# Altium schematic symbol library canDrive_comp_sch_lib.SchLib: 28 symbols
Pins are listed as number, name and electrical type; pins without a type are passive.

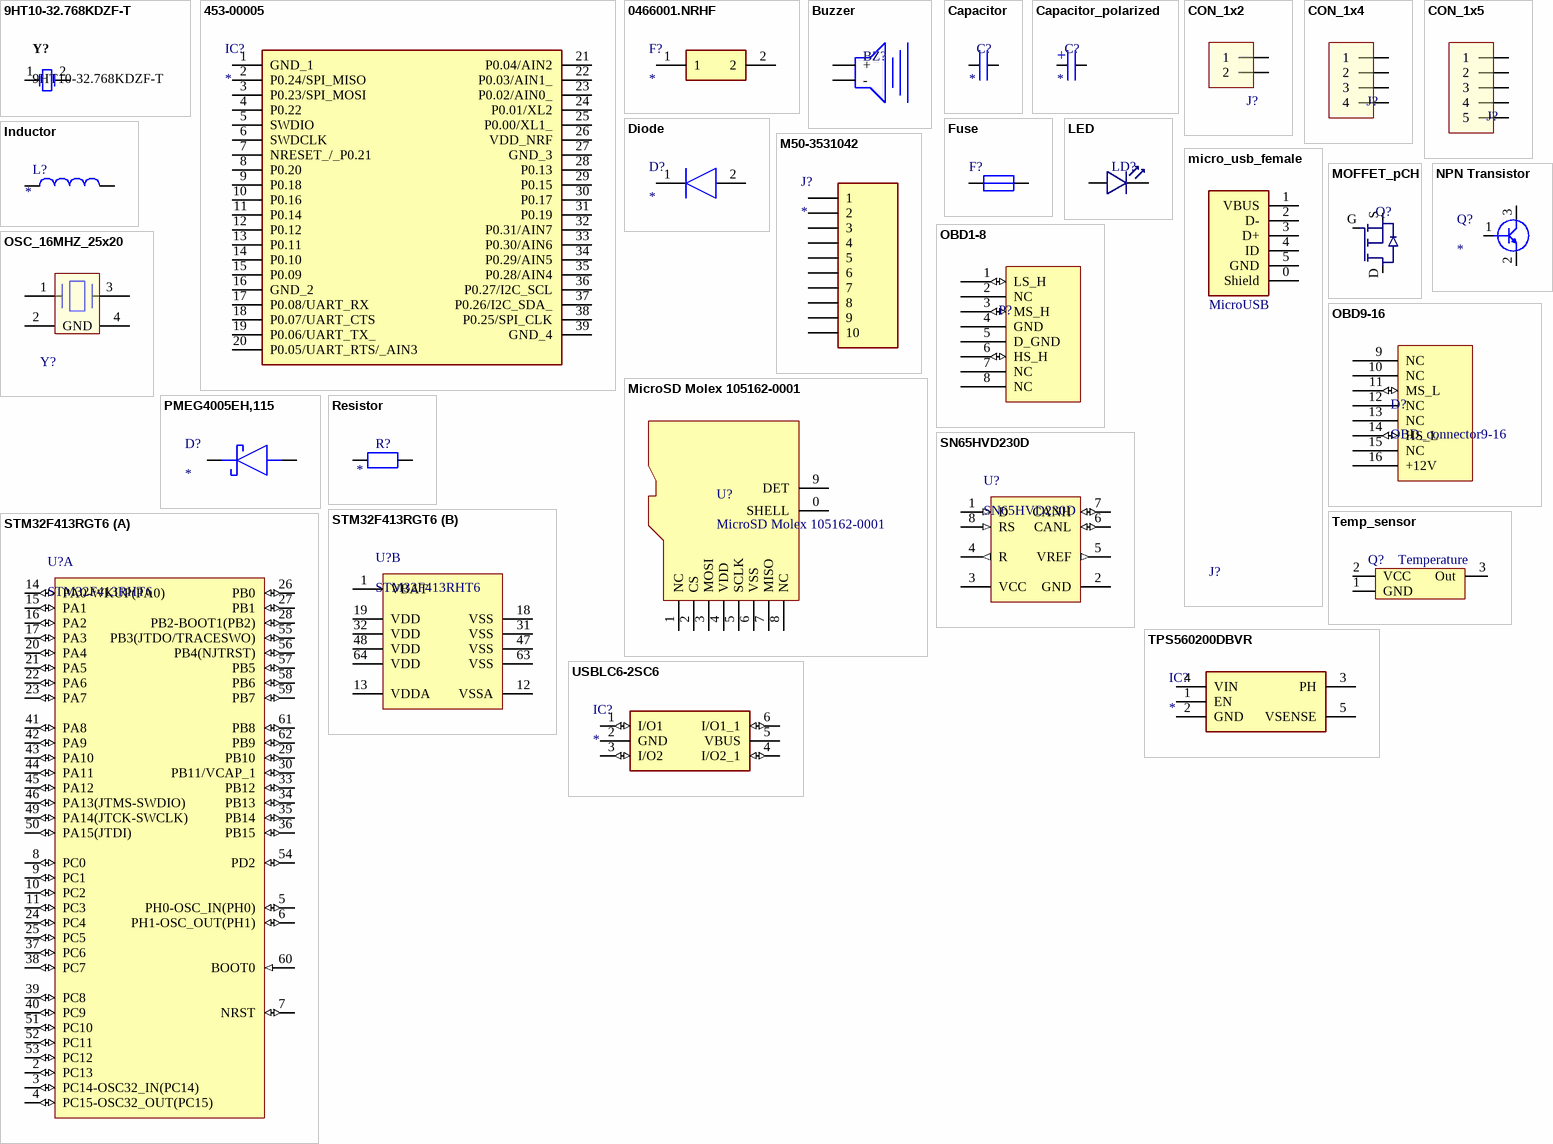
[diagram p0: symbols 9HT10-32.768KDZF-T to USBLC6-2SC6]

## 9HT10-32.768KDZF-T
designator Y?
Tuning Fork, 32.768 KHz, -40 to 85 degC, 2-Pin SMD, RoHS, Tape and Reel; Tolerance: 1%; Voltage Rating: 75 V; Case\Package: 0603; Resistance: 220 kohm; Power Rating: 100 mW; RoHSCompliant: true; Min Operating Temperature: -55 degC; Case Code (Imperial): 0603; Width: 0.8 mm; Pins: 2; ComponentLink1Description: Datasheet; DatasheetVersion: Jun-11; ComponentLink1URL: http://www.txccrystal.com/images/pdf/9ht10.pdf; PackageReference: 9HT10; Mount: Surface Mount; Length: 1.6 mm; REACH SVHC: Yes; Radiation Hardening: No; Max Operating Temperature: 155 degC; Package Quantity: 5000; Height: 0.45 mm; Packaging: Tape and Reel; PackageDescription: 2-Pin Surface Mount Device, Body 3.2 x 1.5 mm; Case Code (Metric): 1608; PartNumber: 9HT10-32.768KDZF-T
footprint TXC-9HT10_V (SMD, 2-Leads, Body 3.2x1.5mm)
pins: 1, 2

## 453-00005
designator IC?
Integrated Circuit; Manufacturer_Name: Laird Technologies; Manufacturer_Part_Number: 453-00005; Datasheet Link: https://connectivity-staging.s3.us-east-2.amazonaws.com/s3fs-public/2018-10/Datasheet%20-%20BL651%20v1_0.pdf; Height: 2.2mm; Mouser Part Number: 239-453-00005; Mouser Price/Stock: https://www.mouser.com/Search/Refine.aspx?Keyword=239-453-00005
footprint 45300005
pins: 1 GND_1, 2 P0.24/SPI_MISO, 3 P0.23/SPI_MOSI, 4 P0.22, 5 SWDIO, 6 SWDCLK, 7 NRESET_/_P0.21, 8 P0.20, 9 P0.18, 10 P0.16, 11 P0.14, 12 P0.12, 13 P0.11, 14 P0.10, 15 P0.09, 16 GND_2, 17 P0.08/UART_RX, 18 P0.07/UART_CTS, 19 P0.06/UART_TX_, 20 P0.05/UART_RTS/_AIN3, 21 P0.04/AIN2, 22 P0.03/AIN1_, 23 P0.02/AIN0_, 24 P0.01/XL2, 25 P0.00/XL1_, 26 VDD_NRF, 27 GND_3, 28 P0.13, 29 P0.15, 30 P0.17, 31 P0.19, 32 P0.31/AIN7, 33 P0.30/AIN6, 34 P0.29/AIN5, 35 P0.28/AIN4, 36 P0.27/I2C_SCL, 37 P0.26/I2C_SDA_, 38 P0.25/SPI_CLK, 39 GND_4

## 0466001.NRHF
designator F?
Fuse; Manufacturer_Name: LITTELFUSE; Manufacturer_Part_Number: 0466001.NRHF; Datasheet Link: http://www.mouser.com/datasheet/2/240/Littelfuse_Fuse_466_Datasheet.pdf-1317335.pdf; Height: 0.66mm; Mouser Part Number: 576-0466001.NRHF; Mouser Price/Stock: https://www.mouser.com/Search/Refine.aspx?Keyword=576-0466001.NRHF
footprint FUSC3215X66N
pins: 1, 2

## Buzzer
designator BZ?  (value not drawn)
footprint 52x52_buzzer
pins: 0 +, 1 -

## Capacitor
designator C?
Capacitor; Value: *
footprint C0603 (Imperial 0603)
footprint C0805 (Imperial 0805)
pins: 0, 1

## Capacitor_polarized
designator C?
Capacitor; Value: *
footprint CAP3216X180N_polar
pins: 1, 2
text: +

## CON_1x2
designator J?  (value not drawn)
1x4 connector; Type: DF57H-4P-1.2V Hirose HDR Lighting Connector
footprint ribbon2pin
pins: 1, 2

## CON_1x4
designator J?  (value not drawn)
1x4 connector; Type: DF57H-4P-1.2V Hirose HDR Lighting Connector
footprint ribbon4pin
footprint DF57H-4P-1.2V (DF57H-4P-1.2V Hirose HDR Lighting Connector)
footprint 127mm_header_4pin
pins: 1, 2, 3, 4

## CON_1x5
designator J?  (value not drawn)
1x5 connector
footprint ribbon5pin
pins: 1, 2, 3, 4, 5

## Diode
designator D?
Diode; Manufacturer_Name: Bourns; Manufacturer_Part_Number: CD0603-S01575; Allied_Number: 70154454; Datasheet Link: https://componentsearchengine.com/Datasheets/2/CD0603-S01575.pdf; Height: 0mm; Mouser Part Number: 652-CD0603-S01575; Mouser Price/Stock: https://www.mouser.com/Search/Refine.aspx?Keyword=652-CD0603-S01575; RS Part Number: 7673712P; RS Price/Stock: http://uk.rs-online.com/web/p/products/7673712P; Allied Price/Stock: https://www.alliedelec.com/bourns-cd0603-s01575/70154454/
footprint CD0603S01575
pins: 1 K, 2 A

## Fuse
designator F?  (value not drawn)
footprint FUSE 0603
footprint FUSE 1206
footprint MF-R 10.2mm pitch
pins: 1, 2

## Inductor
designator L?
Value: *
footprint inductor
pins: 1, 2

## LED
designator LD?  (value not drawn)
LED; Type: *
footprint LED_0603
pins: A, C

## M50-3531042
designator J?
Connector
footprint HDRV10W30P0X127_1X10_1270X210X420P
pins: 1, 2, 3, 4, 5, 6, 7, 8, 9, 10

## micro_usb_female
designator J?  (value not drawn)
footprint Molex_47346-1001_0
pins: 0 Shield (power), 1 VBUS (power), 2 D-, 3 D+, 4 ID, 5 GND (power)
text: MicroUSB

## MicroSD Molex 105162-0001
designator U?
footprint Molex 105162-0001 (MicroSD socket)
footprint MICRO_USB_BIG (MicroSD socket)
pins: 0 SHELL, 1 NC, 2 CS, 3 MOSI, 4 VDD, 5 SCLK, 6 VSS, 7 MISO, 8 NC, 9 DET

## MOFFET_pCH
designator Q?  (value not drawn)
MOSFET P_CH
footprint SOT-23; pin to pad D>1 G>2 S>3
pins: D, G, S

## NPN Transistor
designator Q?
Transistor BJT NPN; Manufacturer_Name: Nexperia; Manufacturer_Part_Number: PMBT3904,215; Datasheet Link: http://assets.nexperia.com/documents/data-sheet/PMBT3904.pdf; Height: 1.1mm; Mouser Part Number: 771-PMBT3904-T/R; Mouser Price/Stock: https://www.mouser.com/Search/Refine.aspx?Keyword=771-PMBT3904-T%2FR; RS Part Number: 0508311; RS Price/Stock: http://uk.rs-online.com/web/p/products/0508311
footprint SOT95P230X110-3N
pins: 1 B, 2 E, 3 C

## OBD1-8
designator P?, comment OBD_connector1-8  (value not drawn)
footprint OBD1-8
pins: 1 LS_H (io), 2 NC, 3 MS_H (io), 4 GND (power), 5 D_GND (power), 6 HS_H (io), 7 NC, 8 NC

## OBD9-16
designator D?, comment OBD_connector9-16
footprint OBD9-16
pins: 9 NC, 10 NC, 11 MS_L (io), 12 NC, 13 NC, 14 HS_L (io), 15 NC, 16 +12V (power)

## OSC_16MHZ_25x20
designator Y?
Link: https://lcsc.com/product-detail/SMD-Crystal-Resonators_Harmony-Elec-X2B016000BC1H-HV_C254310.html
footprint AVX_CX2520SB16000D0FLJZZ_0
pins: 1 1 HOT, 2 GND, 3 2 HOT, 4 GND

## PMEG4005EH,115
designator D?
Schottky Diode; Manufacturer_Name: Nexperia; Manufacturer_Part_Number: PMEG4005EH,115; Datasheet Link: https://assets.nexperia.com/documents/data-sheet/PMEGXX05EH_EJ_SER.pdf; Height: 1.2mm; Mouser Part Number: 771-PMEG4005EH-T/R; Mouser Price/Stock: https://www.mouser.com/Search/Refine.aspx?Keyword=771-PMEG4005EH-T%2FR; RS Part Number: 1787079; RS Price/Stock: https://uk.rs-online.com/web/p/products/1787079
footprint SODFL3516X120N
pins: 1 K, 2 A

## Resistor
designator R?
Resistor; Value: *
footprint R0603 (Imperial 0603)
footprint R0805 (Imperial 0805)
pins: 0, 1

## SN65HVD230D
designator U?
CAN Bus Transceiver, 3.3 V, -40 to 85 degC, 8-Pin SOIC (D), Green (RoHS & no Sb/Br), Tube; PartNumber: SN65HVD230D; Link: https://lcsc.com/product-detail/CAN-ICs_Texas-Instruments-SN65HVD230DR_C12084.html
footprint SN65HVD230D_N (SOIC, 8-Leads, Body 5x4mm, Pitch 1.27mm, IPC Medium Density)
pins: 1 D (in) "CAN transmit data input (LOW for dominant and HIGH for recessive bus states), also called TXD, driver input", 2 GND (power) "Ground connection", 3 VCC (power) "Transceiver 3.3V supply voltage", 4 R (out) "CAN receive data output (LOW for dominant and HIGH for recessive bus states), also called RXD, receiver output", 5 VREF (out) "SN65HVD230 and SN65HVD231: VCC / 2 reference output pin", 6 CANL (io) "Low level CAN bus line", 7 CANH (io) "High level CAN bus line", 8 RS (in) "SN65HVD230 and SN65HVD231: Mode select pin: strong pull down to GND = high speed mode, strong pull up to VCC = low power mode, 10kohm to 100kohm pull down to GND = slope control mode"

## STM32F413RGT6
designator U?, comment STM32F413RHT6
ARM Cortex-M4 32-bit MCU+FPU, 210 DMIPS, 1024 kB Flash, 192 kB Internal RAM, 51 I/Os, 64-pin LQFP, -40 to 85 degC, Tray; Manufacturer: STMicroelectronics; FLASH Size (Prog) (kB): 1024; Supply Voltage(Vcc) max (V): 3.6; Operating Frequency(F) (Processor speed) (MHz): 168; D/A Converter: 2x12-bit; Supply Voltage(Vcc) min (V): 1.8; Internal RAM Size (kB): 192; I/Os (High Current): 51; PackageReference: LQFP64; ComponentLink1Description: Manufacturer URL; ComponentLink1URL: http://www.st.com/web/en/home.html; ComponentLink2URL: http://www.st.com/st-web-ui/static/active/en/resource/technical/document/datasheet/DM00035129.pdf; PartNumber: STM32F413RHT6; Packing: Tray; Core: ARM Cortex-M4; ComponentLink3Description: Package Specification; PackageDescription: 64-Pin Low Profile Quad Flat Package, 10 x 10 mm Body, 0.5 mm Pitch; Mounting Technology: Surface Mount; ComponentLink3URL: http://www.st.com/st-web-ui/static/active/en/resource/technical/document/datasheet/DM00037051.pdf; PackageVersion: Rev. 4, 06/2013; ComponentLink2Description: Datasheet; DatasheetVersion: Rev. 4
footprint STM32F413RGT6_LQFP64_MFG
part A pins: 2 PC13 (io) "PC13/EVENTOUT/RTC_OUT,RTC_TAMP1,RTC_TS", 3 PC14-OSC32_IN(PC14) (io) "PC14-OSC32_IN(PC14)/EVENTOUT/OSC32_IN", 4 PC15-OSC32_OUT(PC15) (io) "PC15-OSC32_OUT(PC15)/EVENTOUT/OSC32_OUT", 5 PH0-OSC_IN(PH0) (io) "PH0-OSC_IN(PH0)/EVENTOUT/OSC_IN", 6 PH1-OSC_OUT(PH1) (io) "PH1-OSC_OUT(PH1)/EVENTOUT/OSC_OUT", 7 NRST (io), 8 PC0 (io) "PC0/OTG_HS_ULPI_STP/EVENTOUT/ADC123_IN10", 9 PC1 (io) "PC1/ETH_MDC/EVENTOUT/ADC123_IN11", 10 PC2 (io) "PC2/SPI2_MISO/OTG_HS_ULPI_DIR/ETH_MII_TXD2/I2S2ext_SD/EVENTOUT/ADC123_IN12", 11 PC3 (io) "PC3/SPI2_MOSI/I2S2_SD/OTG_HS_ULPI_NXT/ETH_MII_TX_CLK/EVENTOUT/ADC123_IN13", 14 PA0-WKUP(PA0) (io) "PA0-WKUP(PA0)/USART2_CTS/UART4_TX/ETH_MII_CRS/TIM2_CH1_ETR/TIM5_CH1/TIM8_ETR/EVENTOUT/ADC123_IN0/WKUP", 15 PA1 (io) "PA1/USART2_RTS/UART4_RX/ETH_RMII_REF_CLK/ETH_MII_RX_CLK/TIM5_CH2/TIM2_CH2/EVENTOUT/ADC123_IN1", 16 PA2 (io) "PA2/USART2_TX/TIM5_CH3/TIM9_CH1/TIM2_CH3/ETH_MDIO/EVENTOUT/ADC123_IN2", 17 PA3 (io) "PA3/USART2_RX/TIM5_CH4/TIM9_CH2/TIM2_CH4/OTG_HS_ULPI_D0/ETH_MII_COL/EVENTOUT/ADC123_IN3", 20 PA4 (io) "PA4/SPI1_NSS/SPI3_NSS/USART2_CK/DCMI_HSYNC/OTG_HS_SOF/I2S3_WS/EVENTOUT/ADC12_IN4/DAC_OUT1", 21 PA5 (io) "PA5/SPI1_SCK/OTG_HS_ULPI_CK/TIM2_CH1_ETR/TIM8_CH1N/EVENTOUT/ADC12_IN5/DAC_OUT2", 22 PA6 (io) "PA6/SPI1_MISO/TIM8_BKIN/TIM13_CH1/DCMI_PIXCLK/TIM3_CH1/TIM1_BKIN/EVENTOUT/ADC12_IN6", 23 PA7 (io) "PA7/SPI1_MOSI/TIM8_CH1N/TIM14_CH1/TIM3_CH2/ETH_MII_RX_DV/TIM1_CH1N/ETH_RMII_CRS_DV/EVENTOUT/ADC12_IN7", 24 PC4 (io) "PC4/ETH_RMII_RX_D0/ETH_MII_RX_D0/EVENTOUT/ADC12_IN14", 25 PC5 (io) "PC5/ETH_RMII_RX_D1/ETH_MII_RX_D1/EVENTOUT/ADC12_IN15", 26 PB0 (io) "PB0/TIM3_CH3/TIM8_CH2N/OTG_HS_ULPI_D1/ETH_MII_RXD2/TIM1_CH2N/EVENTOUT/ADC12_IN8", 27 PB1 (io) "PB1/TIM3_CH4/TIM8_CH3N/OTG_HS_ULPI_D2/ETH_MII_RXD3/TIM1_CH3N/EVENTOUT/ADC12_IN9", 28 PB2-BOOT1(PB2) (io) "PB2-BOOT1(PB2)/EVENTOUT", 29 PB10 (io) "PB10/SPI2_SCK/I2S2_CK/I2C2_SCL/USART3_TX/OTG_HS_ULPI_D3/ETH_MII_RX_ER/TIM2_CH3/EVENTOUT", 30 PB11/VCAP_1 (io) "PB11/I2C2_SDA/USART3_RX/OTG_HS_ULPI_D4/ETH_RMII_TX_EN/ETH_MII_TX_EN/TIM2_CH4/EVENTOUT", 33 PB12 (io) "PB12/SPI2_NSS/I2S2_WS/I2C2_SMBA/USART3_CK/TIM1_BKIN/CAN2_RX/OTG_HS_ULPI_D5/ETH_RMII_TXD0/ETH_MII_TXD0/OTG_HS_ID/EVENTOUT", 34 PB13 (io) "PB13/SPI2_SCK/I2S2_CK/USART3_CTS/TIM1_CH1N/CAN2_TX/OTG_HS_ULPI_D6/ETH_RMII_TXD1/ETH_MII_TXD1/EVENTOUT/OTG_HS_VBUS", 35 PB14 (io) "PB14/SPI2_MISO/TIM1_CH2N/TIM12_CH1/OTG_HS_DM/USART3_RTS/TIM8_CH2N/I2S2ext_SD/EVENTOUT", 36 PB15 (io) "PB15/SPI2_MOSI/I2S2_SD/TIM1_CH3N/TIM8_CH3N/TIM12_CH2/OTG_HS_DP/EVENTOUT/RTC_REFIN", 37 PC6 (io) "PC6/I2S2_MCK/TIM8_CH1/SDIO_D6/USART6_TX/DCMI_D0/TIM3_CH1/EVENTOUT", 38 PC7 (io) "PC7/I2S3_MCK/TIM8_CH2/SDIO_D7/USART6_RX/DCMI_D1/TIM3_CH2/EVENTOUT", 39 PC8 (io) "PC8/TIM8_CH3/SDIO_D0/TIM3_CH3/USART6_CK/DCMI_D2/EVENTOUT", 40 PC9 (io) "PC9/I2S_CKIN/MCO2/TIM8_CH4/SDIO_D1/I2C3_SDA/DCMI_D3/TIM3_CH4/EVENTOUT", 41 PA8 (io) "PA8/MCO1/USART1_CK/TIM1_CH1/I2C3_SCL/OTG_FS_SOF/EVENTOUT", 42 PA9 (io) "PA9/USART1_TX/TIM1_CH2/I2C3_SMBA/DCMI_D0/EVENTOUT/OTG_FS_VBUS", 43 PA10 (io) "PA10/USART1_RX/TIM1_CH3/OTG_FS_ID/DCMI_D1/EVENTOUT", 44 PA11 (io) "PA11/USART1_CTS/CAN1_RX/TIM1_CH4/OTG_FS_DM/EVENTOUT", 45 PA12 (io) "PA12/USART1_RTS/CAN1_TX/TIM1_ETR/OTG_FS_DP/EVENTOUT", 46 PA13(JTMS-SWDIO) (io) "PA13(JTMS-SWDIO)/JTMS-SWDIO/EVENTOUT", 49 PA14(JTCK-SWCLK) (io) "PA14(JTCK-SWCLK)/JTCK-SWCLK/EVENTOUT", 50 PA15(JTDI) (io) "PA15(JTDI)/JTDI/SPI3_NSS/I2S3_WS/TIM2_CH1_ETR/SPI1_NSS/EVENTOUT", 51 PC10 (io) "PC10/SPI3_SCK/I2S3_CK/UART4_TX/SDIO_D2/DCMI_D8/USART3_TX/EVENTOUT", 52 PC11 (io) "PC11/UART4_RX/SPI3_MISO/SDIO_D3/DCMI_D4/USART3_RX/I2S3ext_SD/EVENTOUT", 53 PC12 (io) "PC12/UART5_TX/SDIO_CK/DCMI_D9/SPI3_MOSI/I2S3_SD/USART3_CK/EVENTOUT", 54 PD2 (io) "PD2/TIM3_ETR/UART5_RX/SDIO_CMD/DCMI_D11/EVENTOUT", 55 PB3(JTDO/TRACESWO) (io) "PB3(JTDO/TRACESWO)/JTDO/TRACESWO/SPI3_SCK/I2S3_CK/TIM2_CH2/SPI1_SCK/EVENTOUT", 56 PB4(NJTRST) (io) "PB4(NJTRST)/NJTRST/SPI3_MISO/TIM3_CH1/SPI1_MISO/I2S3ext_SD/EVENTOUT", 57 PB5 (io) "PB5/I2C1_SMBA/CAN2_RX/OTG_HS_ULPI_D7/ETH_PPS_OUT/TIM3_CH2/SPI1_MOSI/SPI3_MOSI/DCMI_D10/I2S3_SD/EVENTOUT", 58 PB6 (io) "PB6/I2C1_SCL/TIM4_CH1/CAN2_TX/DCMI_D5/USART1_TX/EVENTOUT", 59 PB7 (io) "PB7/I2C1_SDA/FSMC_NL/DCMI_VSYNC/USART1_RX/TIM4_CH2/EVENTOUT", 60 BOOT0 (in) "BOOT0/VPP", 61 PB8 (io) "PB8/TIM4_CH3/SDIO_D4/TIM10_CH1/DCMI_D6/ETH_MII_TXD3/I2C1_SCL/CAN1_RX/EVENTOUT", 62 PB9 (io) "PB9/SPI2_NSS/I2S2_WS/TIM4_CH4/TIM11_CH1/SDIO_D5/DCMI_D7/I2C1_SDA/CAN1_TX/EVENTOUT"
part B pins: 1 VBAT (power), 12 VSSA (power), 13 VDDA (power), 18 VSS (power), 19 VDD (power), 31 VSS (power), 32 VDD (power), 47 VSS (power), 48 VDD (power), 63 VSS (power), 64 VDD (power)

## Temp_sensor
designator Q?  (value not drawn)
Temperature sensor
footprint SOT-23
pins: 1 GND, 2 VCC, 3 Out
text: Temperature

## TPS560200DBVR
designator IC?
Integrated Circuit; Manufacturer_Name: Texas Instruments; Manufacturer_Part_Number: TPS560200DBVR; Datasheet Link: http://www.ti.com/lit/gpn/tps560200; Height: 1.45mm; Mouser Part Number: 595-TPS560200DBVR; Mouser Price/Stock: https://www.mouser.com/Search/Refine.aspx?Keyword=595-TPS560200DBVR
footprint SOT95P280X145-5N
pins: 1 EN, 2 GND, 3 PH, 4 VIN, 5 VSENSE

## USBLC6-2SC6
designator IC?
Integrated Circuit; Manufacturer_Name: STMicroelectronics; Manufacturer_Part_Number: USBLC6-2SC6; Allied_Number: 70389689; Datasheet Link: http://www.st.com/st-web-ui/static/active/en/resource/technical/document/datasheet/CD00050750.pdf; Height: 1.45mm; Mouser Part Number: 511-USBLC6-2SC6; Mouser Price/Stock: https://www.mouser.com/Search/Refine.aspx?Keyword=511-USBLC6-2SC6; RS Part Number: 6247693P; RS Price/Stock: http://uk.rs-online.com/web/p/products/6247693P; Allied Price/Stock: http://www.alliedelec.com/stmicroelectronics-usblc6-2sc6/70389689/
footprint SOT95P280X145-6N
pins: 1 I/O1 (io), 2 GND (power), 3 I/O2 (io), 4 I/O2_1 (io), 5 VBUS, 6 I/O1_1 (io)